# EAGLE library part VN110E (library vectornav)
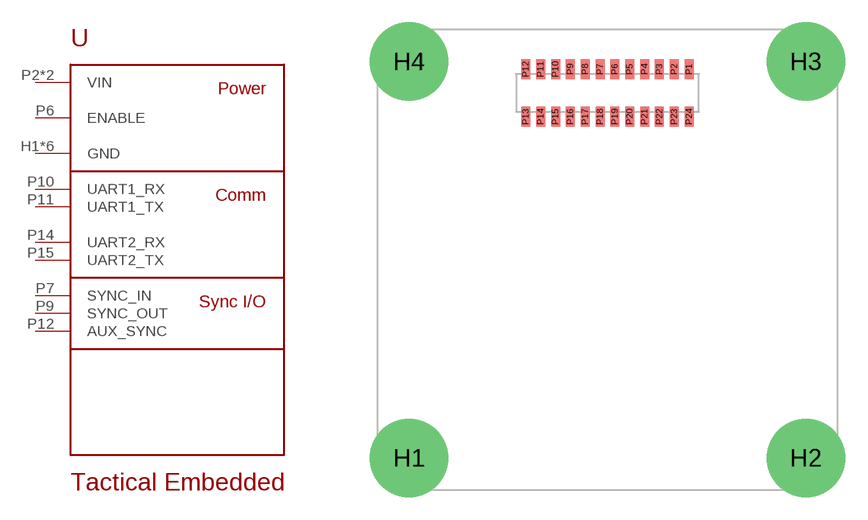
[diagram p2: symbol with the pads of TACTICAL_EMBEDDED; footprint TACTICAL_EMBEDDED]

Designator prefix -

## VN110E  [TACTICAL_EMBEDDED]
H1  GND
H2  GND
H3  GND
H4  GND
P2  VIN
P3  VIN
P4  GND
P5  GND
P6  ENABLE
P7  SYNC_IN
P9  SYNC_OUT
P10  UART1_RX
P11  UART1_TX
P12  AUX_SYNC
P14  UART2_RX
P15  UART2_TX

## Footprint TACTICAL_EMBEDDED (pad centres in mm)
drill 3 pad 5.3: H1 -13.36,-13.36; H2 13.36,-13.36; H3 13.36,13.36; H4 -13.36,13.36
smd 0.61 x 1.37: P1 5.5,12.851; P2 4.5,12.851; P3 3.5,12.851; P4 2.5,12.851; P5 1.5,12.851; P6 0.5,12.851; P7 -0.5,12.851; P8 -1.5,12.851; P9 -2.5,12.851; P10 -3.5,12.851; P11 -4.5,12.851; P12 -5.5,12.851; P13 -5.5,9.649; P14 -4.5,9.649; P15 -3.5,9.649; P16 -2.5,9.649; P17 -1.5,9.649; P18 -0.5,9.649; P19 0.5,9.649; P20 1.5,9.649; P21 2.5,9.649; P22 3.5,9.649; P23 4.5,9.649; P24 5.5,9.649